# Altium schematic symbol library LED Lighting - Color.SchLib: 3 symbols
Pins are listed as number, name and electrical type; pins without a type are passive.

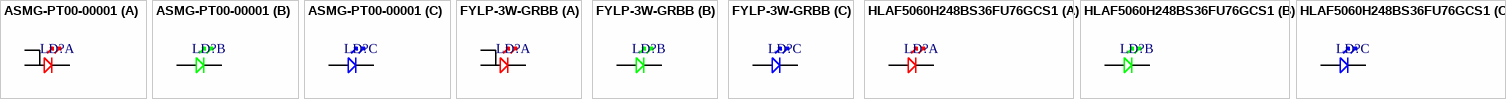
[diagram p0: symbols ASMG-PT00-00001 to HLAF5060H248BS36FU76GCS1]

## ASMG-PT00-00001
designator LD?  (value not drawn)
LED 1W TRI-COLOR HIGH POWER; Supplier 1: Digi-Key; Supplier 2: Farnell; Supplier 3: Mouser; Supplier Part Number 1: 516-4178-1-ND; Supplier Part Number 2: 2858851; Supplier Part Number 3: 630-ASMG-PT00-00001
footprint BROADCOM_ASMG-PT00-00001
part A pins: 1 R+, 2 R-, TP
part B pins: 3 G+, 4 G-
part C pins: 5 B+, 6 B-

## FYLP-3W-GRBB
designator LD?  (value not drawn)
LED 3W TRI-COLOR HIGH POWER
footprint FORYARD_FYLP-3W-GRBB
part A pins: 3 R-, 4 R+, TP
part B pins: 1 G-, 2 G+
part C pins: 5 B-, 6 B+

## HLAF5060H248BS36FU76GCS1
designator LD?  (value not drawn)
LED 300MW TRI-COLOR LOW POWER
footprint HONGLITRONIC_HLAF5060H248BS36FU76GCS1
part A pins: 2 R+, 5 R-
part B pins: 1 G+, 6 G-
part C pins: 3 B+, 4 B-